# EAGLE library part MC14081B (library magic)
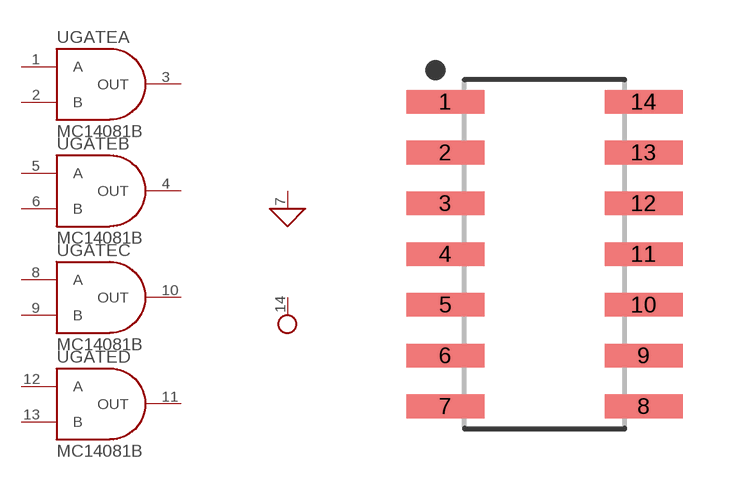
[diagram p8: symbol with the pads of MC140XXBG; footprint MC140XXBG]

Designator prefix -; gates GATEB=2-INPUT_AND GATEA=2-INPUT_AND GATEC=2-INPUT_AND GATED=2-INPUT_AND GND=GND VDD=PWR

## MC14081B  [MC140XXBG]
1  GATEA:A
2  GATEA:B
3  GATEA:OUT
4  GATEB:OUT
5  GATEB:A
6  GATEB:B
7  GND:1
8  GATEC:A
9  GATEC:B
10  GATEC:OUT
11  GATED:OUT
12  GATED:A
13  GATED:B
14  VDD:1

## Footprint MC140XXBG (pad centres in mm)
14-SOIC, 1.27 mm pitch, 6.00 mm span, 8.65 X 3.90 X 1.75 mm body 14-pin SOIC package with 1.27 mm pitch, 6.00 mm span with body size 8.65 X 3.90 X 1.75 mm
smd 1.952 x 0.589: 1 -2.482,3.81; 2 -2.482,2.54; 3 -2.482,1.27; 4 -2.482,0; 5 -2.482,-1.27; 6 -2.482,-2.54; 7 -2.482,-3.81; 8 2.482,-3.81; 9 2.482,-2.54; 10 2.482,-1.27; 11 2.482,0; 12 2.482,1.27; 13 2.482,2.54; 14 2.482,3.81